# Altium footprint library Connectors.PcbLib: 73 footprints (part 3 of 5)
Each footprint in its own frame and in the unit in brackets; x right, y up, seen from the top. Pads: shape width x height; smd on the part's side, far side on the other; paste and mask are expansions set on the pad; w line width, h text height; cw(c..) or ccw(c..) is an arc to the next point about the centre after c.
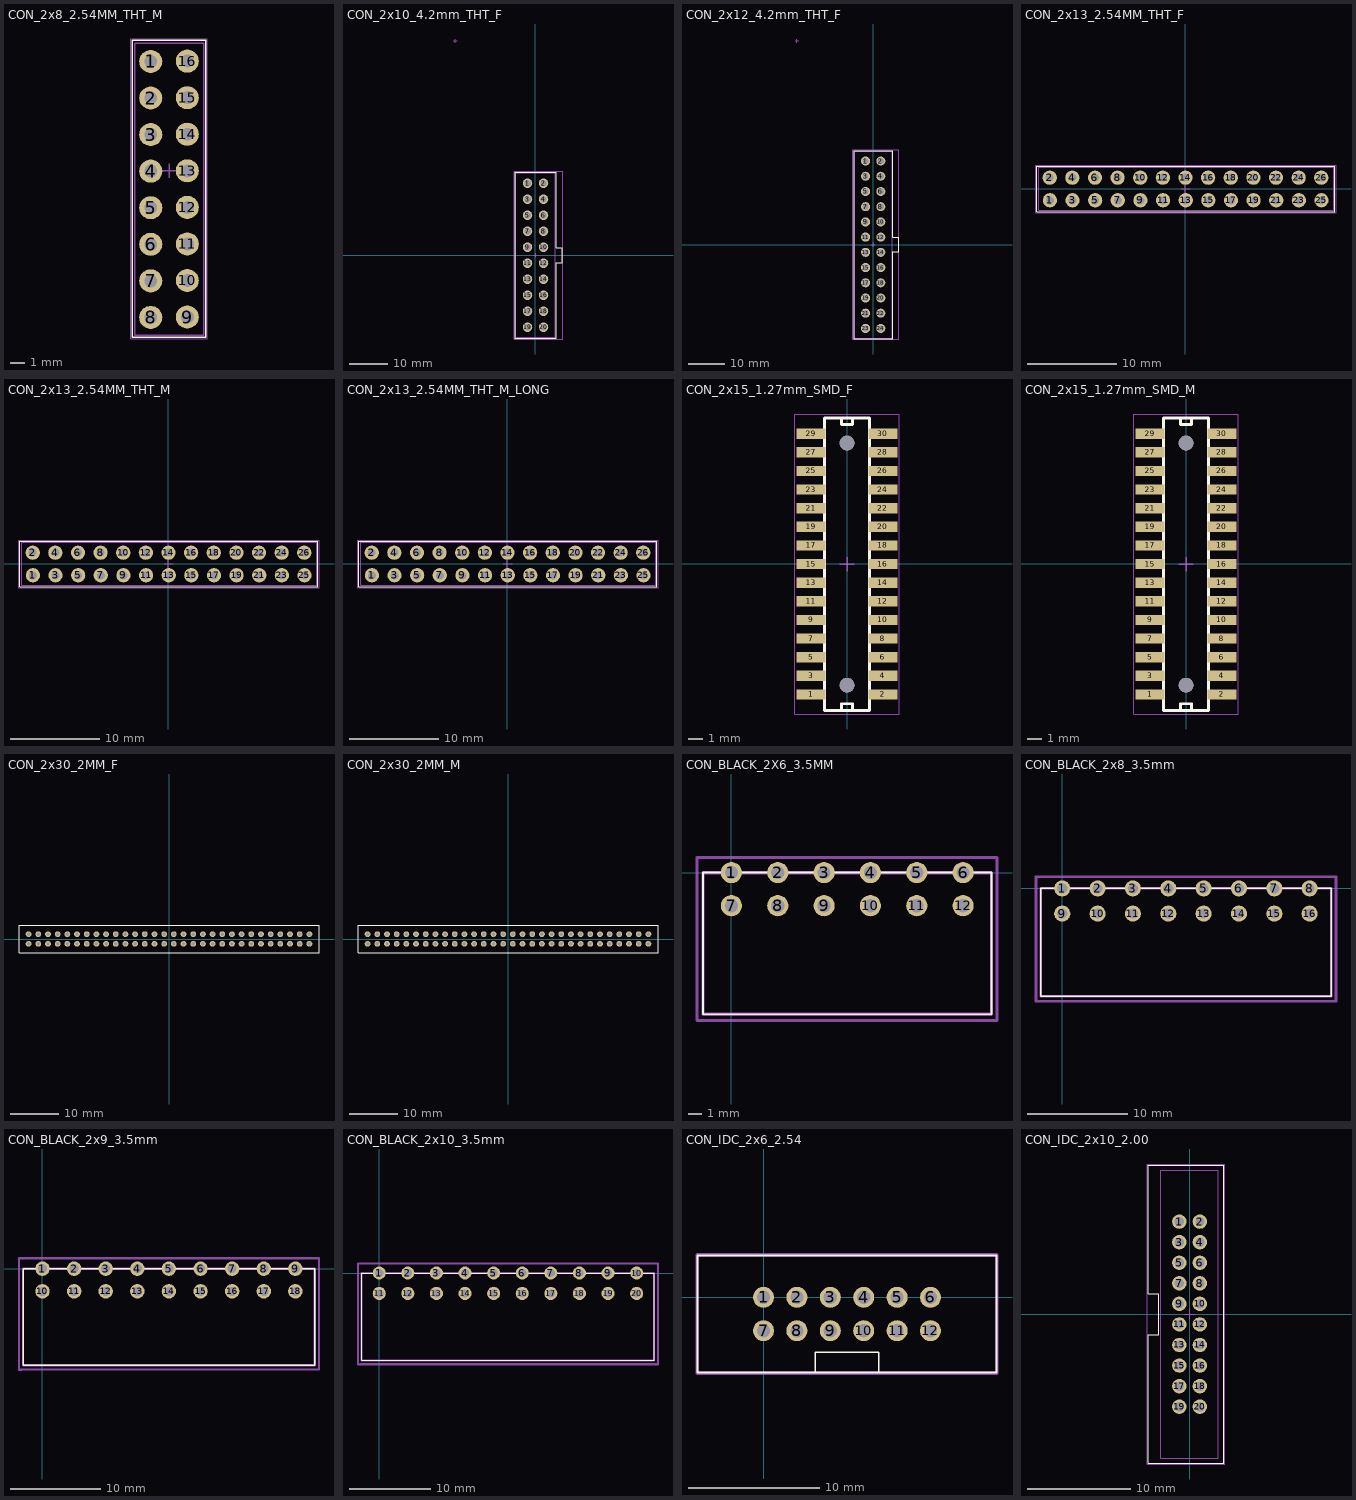
[diagram p2: the footprints below, top view; thin cyan lines are the x and y axes]

## CON_2x8_2.54MM_THT_M [mm]
height 1.4
pads (16):
  round 1.6 hole 0.9: 1(49.276,-60.349) 2(49.276,-62.889) 3(49.276,-65.429) 4(49.276,-67.969) 5(49.276,-70.509) 6(49.276,-73.049) 7(49.276,-75.589) 8(49.276,-78.129) 9(51.816,-78.105) 10(51.816,-75.565) 11(51.816,-73.025) 12(51.816,-70.485) 13(51.816,-67.945) 14(51.816,-65.405) 15(51.816,-62.865) 16(51.816,-60.325)
Top Overlay:
  lines w0.1: 48.006,-79.502 48.006,-58.889 53.086,-58.889 53.086,-79.502 48.006,-79.502
Mechanical 13:
  lines w0.1: 48.176,-79.375 48.176,-59.089 52.959,-59.089 52.959,-79.375 48.176,-79.375
Mechanical 15:
  lines w0.05: 47.876,-79.629 47.876,-58.789 53.213,-58.789 53.213,-79.629 47.876,-79.629
  lines w0.1: 50.054,-67.945 51.054,-67.945 ; 50.546,-68.438 50.546,-67.438
3D body: height 8.3, standoff -3, extent 48.976,-78.405 49.576,-77.805
3D body: height 8.3, standoff -3, extent 51.516,-78.405 52.116,-77.805
3D body: height 2.4, standoff 0.1, extent 48.262,-79.375 52.873,-59.089
3D body: height 8.3, standoff -3, extent 48.976,-60.648 49.576,-60.048
3D body: height 8.3, standoff -3, extent 51.516,-60.625 52.116,-60.025
3D body: height 8.3, standoff -3, extent 51.516,-63.165 52.116,-62.565
3D body: height 8.3, standoff -3, extent 48.976,-63.188 49.576,-62.588
3D body: height 8.3, standoff -3, extent 48.976,-65.728 49.576,-65.128
3D body: height 8.3, standoff -3, extent 51.516,-65.705 52.116,-65.105
3D body: height 8.3, standoff -3, extent 48.976,-68.268 49.576,-67.668
3D body: height 8.3, standoff -3, extent 51.516,-68.245 52.116,-67.645
3D body: height 8.3, standoff -3, extent 48.976,-70.808 49.576,-70.208
3D body: height 8.3, standoff -3, extent 51.516,-70.785 52.116,-70.185
3D body: height 8.3, standoff -3, extent 48.976,-73.348 49.576,-72.748
3D body: height 8.3, standoff -3, extent 51.516,-73.325 52.116,-72.725
3D body: height 8.3, standoff -3, extent 51.516,-75.865 52.116,-75.265
3D body: height 8.3, standoff -3, extent 48.976,-75.888 49.576,-75.288

## CON_2x10_4.2mm_THT_F [mm]
pads (20):
  round 2.5 hole 1.7: 1(-2.095,18.897) 2(2.105,18.897) 3(-2.095,14.697) 4(2.105,14.697) 5(-2.095,10.497) 6(2.105,10.497) 7(-2.095,6.297) 8(2.105,6.297) 9(-2.095,2.097) 10(2.105,2.097) 11(-2.095,-2.103) 12(2.105,-2.103) 13(-2.095,-6.303) 14(2.105,-6.303) 15(-2.095,-10.503) 16(2.105,-10.503) 17(-2.095,-14.703) 18(2.105,-14.703) 19(-2.095,-18.903) 20(2.105,-18.903)
Top Overlay:
  lines w0.1: -5.395,-21.803 -5.395,21.797 5.405,21.797 5.405,1.997 6.205,1.997 7.005,1.997 7.005,-2.003 5.405,-2.003 5.405,-21.803 -5.395,-21.803
Mechanical 13:
  lines w0.1: -5.195,-21.603 -5.195,21.597 5.205,21.597 5.205,-21.603 -5.195,-21.603
Mechanical 15:
  lines w0.05: -5.595,-22.003 -5.595,21.997 7.105,21.997 7.105,-22.003 -5.595,-22.003
  lines w0.1: -21.545,56.273 -20.545,56.273 ; -21.045,55.773 -21.045,56.773 ; -0.495,-0.003 0.505,-0.003 ; 0.005,-0.503 0.005,0.497
3D body: height 12, standoff -3.7, extent -2.695,14.097 -1.495,15.297
3D body: height 12, standoff -3.7, extent -2.695,9.897 -1.495,11.097
3D body: height 12, standoff -3.7, extent -2.695,5.697 -1.495,6.897
3D body: height 12, standoff -3.7, extent -2.695,1.497 -1.495,2.697
3D body: height 12, standoff -3.7, extent -2.695,-2.703 -1.495,-1.503
3D body: height 12, standoff -3.7, extent -2.695,-6.903 -1.495,-5.703
3D body: height 12, standoff -3.7, extent -2.695,-11.103 -1.495,-9.903
3D body: height 12, standoff -3.7, extent -2.695,-15.303 -1.495,-14.103
3D body: height 12, standoff -3.7, extent 1.505,-15.303 2.705,-14.103
3D body: height 12, standoff -3.7, extent 1.505,-11.103 2.705,-9.903
3D body: height 12, standoff -3.7, extent 1.505,-6.903 2.705,-5.703
3D body: height 12, standoff -3.7, extent 1.505,-2.703 2.705,-1.503
3D body: height 12, standoff -3.7, extent 1.505,1.497 2.705,2.697
3D body: height 12, standoff -3.7, extent 1.505,5.697 2.705,6.897
3D body: height 12, standoff -3.7, extent 1.505,9.897 2.705,11.097
3D body: height 12, standoff -3.7, extent 1.505,14.097 2.705,15.297
3D body: height 12, standoff -3.7, extent 1.505,18.297 2.705,19.497
3D body: height 12, standoff -3.7, extent -2.695,18.297 -1.495,19.497
3D body: height 12, standoff -3.7, extent 1.505,-19.503 2.705,-18.303
3D body: height 12, standoff -3.7, extent -2.695,-19.503 -1.495,-18.303
3D body: height 13.1, standoff 0.1, extent -5.195,-21.603 5.205,21.597

## CON_2x12_4.2mm_THT_F [mm]
pads (24):
  round 2.5 hole 1.7: 1(-2.095,23.088) 2(2.105,23.088) 3(-2.095,18.888) 4(2.105,18.888) 5(-2.095,14.688) 6(2.105,14.688) 7(-2.095,10.488) 8(2.105,10.488) 9(-2.095,6.288) 10(2.105,6.288) 11(-2.095,2.088) 12(2.105,2.088) 13(-2.095,-2.112) 14(2.105,-2.112) 15(-2.095,-6.312) 16(2.105,-6.312) 17(-2.095,-10.512) 18(2.105,-10.512) 19(-2.095,-14.712) 20(2.105,-14.712) 21(-2.095,-18.912) 22(2.105,-18.912) 23(-2.095,-23.112) 24(2.105,-23.112)
Top Overlay:
  lines w0.1: -5.395,-25.908 -5.395,25.988 5.405,25.988 5.405,2.188 5.405,1.988 6.205,1.988 7.005,1.988 7.005,-2.012 5.405,-2.012 5.405,-25.908 -5.395,-25.908
Mechanical 13:
  lines w0.1: -5.195,-25.781 -5.195,25.788 5.205,25.788 5.205,-25.781 -5.195,-25.781
Mechanical 15:
  lines w0.05: -5.595,-26.035 -5.595,26.188 7.105,26.188 7.105,-26.035 -5.595,-26.035
  lines w0.1: -21.545,56.273 -20.545,56.273 ; -21.045,55.773 -21.045,56.773 ; -0.495,-0.003 0.505,-0.003 ; 0.005,-0.503 0.005,0.497
3D body: height 12, standoff -3.7, extent -2.695,18.288 -1.495,19.488
3D body: height 12, standoff -3.7, extent -2.695,14.088 -1.495,15.288
3D body: height 12, standoff -3.7, extent -2.695,9.888 -1.495,11.088
3D body: height 12, standoff -3.7, extent -2.695,5.688 -1.495,6.888
3D body: height 12, standoff -3.7, extent -2.695,1.488 -1.495,2.688
3D body: height 12, standoff -3.7, extent -2.695,-2.712 -1.495,-1.512
3D body: height 12, standoff -3.7, extent -2.695,-6.912 -1.495,-5.712
3D body: height 12, standoff -3.7, extent -2.695,-11.112 -1.495,-9.912
3D body: height 12, standoff -3.7, extent 1.505,-11.112 2.705,-9.912
3D body: height 12, standoff -3.7, extent 1.505,-6.912 2.705,-5.712
3D body: height 12, standoff -3.7, extent 1.505,-2.712 2.705,-1.512
3D body: height 12, standoff -3.7, extent 1.505,1.488 2.705,2.688
3D body: height 12, standoff -3.7, extent 1.505,5.688 2.705,6.888
3D body: height 12, standoff -3.7, extent 1.505,9.888 2.705,11.088
3D body: height 12, standoff -3.7, extent 1.505,14.088 2.705,15.288
3D body: height 12, standoff -3.7, extent 1.505,18.288 2.705,19.488
3D body: height 12, standoff -3.7, extent 1.505,22.488 2.705,23.688
3D body: height 12, standoff -3.7, extent -2.695,22.488 -1.495,23.688
3D body: height 12, standoff -3.7, extent 1.505,-15.312 2.705,-14.112
3D body: height 12, standoff -3.7, extent -2.695,-15.312 -1.495,-14.112
3D body: height 13.1, standoff 0.1, extent -5.2,-25.781 5.2,25.781
3D body: height 12, standoff -3.7, extent -2.695,-19.512 -1.495,-18.312
3D body: height 12, standoff -3.7, extent 1.505,-19.512 2.705,-18.312
3D body: height 12, standoff -3.7, extent 1.505,-23.712 2.705,-22.512
3D body: height 12, standoff -3.7, extent -2.695,-23.712 -1.495,-22.512

## CON_2x13_2.54MM_THT_F [mm]
height 1.4
pads (26):
  round 1.6 hole 0.9: 1(-15.216,-1.27) 2(-15.24,1.27) 3(-12.676,-1.27) 4(-12.7,1.27) 5(-10.136,-1.27) 6(-10.16,1.27) 7(-7.596,-1.27) 8(-7.62,1.27) 9(-5.056,-1.27) 10(-5.08,1.27) 11(-2.516,-1.27) 12(-2.54,1.27) 13(0.024,-1.27) 14(0,1.27) 15(2.564,-1.27) 16(2.54,1.27) 17(5.104,-1.27) 18(5.08,1.27) 19(7.644,-1.27) 20(7.62,1.27) 21(10.184,-1.27) 22(10.16,1.27) 23(12.724,-1.27) 24(12.7,1.27) 25(15.264,-1.27) 26(15.24,1.27)
Top Overlay:
  lines w0.1: -16.676,-2.54 16.764,-2.54 16.764,2.54 -16.676,2.54 -16.676,-2.54
Mechanical 13:
  lines w0.1: -16.476,-2.37 16.637,-2.37 16.637,2.413 -16.476,2.413 -16.476,-2.37
Mechanical 15:
  lines w0.05: -16.776,-2.67 -16.776,2.667 16.891,2.667 16.891,-2.67 -16.776,-2.67
  lines w0.1: -0.492,0 0.508,0 ; 0,-0.508 0,0.492
3D body "step_temp.STEP": height 8.45, standoff -3.15, extent -16.637,-2.54 16.883,2.54

## CON_2x13_2.54MM_THT_M [mm]
height 1.4
pads (26):
  round 1.6 hole 0.9: 1(-15.216,-1.27) 2(-15.24,1.27) 3(-12.676,-1.27) 4(-12.7,1.27) 5(-10.136,-1.27) 6(-10.16,1.27) 7(-7.596,-1.27) 8(-7.62,1.27) 9(-5.056,-1.27) 10(-5.08,1.27) 11(-2.516,-1.27) 12(-2.54,1.27) 13(0.024,-1.27) 14(0,1.27) 15(2.564,-1.27) 16(2.54,1.27) 17(5.104,-1.27) 18(5.08,1.27) 19(7.644,-1.27) 20(7.62,1.27) 21(10.184,-1.27) 22(10.16,1.27) 23(12.724,-1.27) 24(12.7,1.27) 25(15.264,-1.27) 26(15.24,1.27)
Top Overlay:
  lines w0.1: -16.676,-2.54 -16.676,2.54 16.764,2.54 16.764,-2.54 -16.676,-2.54
Mechanical 13:
  lines w0.1: -16.476,-2.37 -16.476,2.413 16.637,2.413 16.637,-2.37 -16.476,-2.37
Mechanical 15:
  lines w0.05: -16.776,-2.67 16.891,-2.67 16.891,2.667 -16.776,2.667 -16.776,-2.67
  lines w0.1: -0.492,0 0.508,0 ; 0,-0.508 0,0.492
3D body: height 8.3, standoff -3, extent 14.964,-1.57 15.563,-0.97
3D body: height 8.3, standoff -3, extent 14.94,0.97 15.54,1.57
3D body: height 8.3, standoff -3, extent 12.424,-1.57 13.023,-0.97
3D body: height 8.3, standoff -3, extent 12.4,0.97 13,1.57
3D body: height 8.3, standoff -3, extent 9.86,0.97 10.46,1.57
3D body: height 8.3, standoff -3, extent 9.884,-1.57 10.483,-0.97
3D body: height 8.3, standoff -3, extent 7.344,-1.57 7.943,-0.97
3D body: height 8.3, standoff -3, extent 7.32,0.97 7.92,1.57
3D body: height 8.3, standoff -3, extent 4.78,0.97 5.38,1.57
3D body: height 8.3, standoff -3, extent 4.804,-1.57 5.403,-0.97
3D body: height 8.3, standoff -3, extent 2.264,-1.57 2.863,-0.97
3D body: height 8.3, standoff -3, extent 2.24,0.97 2.84,1.57
3D body: height 8.3, standoff -3, extent -0.3,0.97 0.3,1.57
3D body: height 8.3, standoff -3, extent -0.276,-1.57 0.323,-0.97
3D body: height 8.3, standoff -3, extent -2.816,-1.57 -2.217,-0.97
3D body: height 8.3, standoff -3, extent -2.84,0.97 -2.24,1.57
3D body: height 8.3, standoff -3, extent -5.38,0.97 -4.78,1.57
3D body: height 8.3, standoff -3, extent -5.356,-1.57 -4.757,-0.97
3D body: height 8.3, standoff -3, extent -7.896,-1.57 -7.297,-0.97
3D body: height 8.3, standoff -3, extent -7.92,0.97 -7.32,1.57
3D body: height 8.3, standoff -3, extent -10.46,0.97 -9.86,1.57
3D body: height 8.3, standoff -3, extent -10.436,-1.57 -9.837,-0.97
3D body: height 8.3, standoff -3, extent -12.976,-1.57 -12.377,-0.97
3D body: height 8.3, standoff -3, extent -13,0.97 -12.4,1.57
3D body: height 8.3, standoff -3, extent -15.516,-1.57 -14.917,-0.97
3D body: height 8.3, standoff -3, extent -15.54,0.97 -14.94,1.57
3D body: height 2.4, standoff 0.1, extent -16.383,-2.286 16.51,2.286

## CON_2x13_2.54MM_THT_M_LONG [mm]
height 1.4
pads (26):
  round 1.6 hole 0.9: 1(-15.216,-1.27) 2(-15.24,1.27) 3(-12.676,-1.27) 4(-12.7,1.27) 5(-10.136,-1.27) 6(-10.16,1.27) 7(-7.596,-1.27) 8(-7.62,1.27) 9(-5.056,-1.27) 10(-5.08,1.27) 11(-2.516,-1.27) 12(-2.54,1.27) 13(0.024,-1.27) 14(0,1.27) 15(2.564,-1.27) 16(2.54,1.27) 17(5.104,-1.27) 18(5.08,1.27) 19(7.644,-1.27) 20(7.62,1.27) 21(10.184,-1.27) 22(10.16,1.27) 23(12.724,-1.27) 24(12.7,1.27) 25(15.264,-1.27) 26(15.24,1.27)
Top Overlay:
  lines w0.1: -16.676,-2.54 16.764,-2.54 16.764,2.54 -16.676,2.54 -16.676,-2.54
Mechanical 13:
  lines w0.1: -16.476,-2.37 16.637,-2.37 16.637,2.413 -16.476,2.413 -16.476,-2.37
Mechanical 15:
  lines w0.05: -16.776,-2.67 -16.776,2.667 16.891,2.667 16.891,-2.67 -16.776,-2.67
  lines w0.1: -0.492,0 0.508,0 ; 0,-0.508 0,0.492
3D body: height 25, standoff -3, extent -15.54,0.97 -14.94,1.57
3D body: height 25, standoff -3, extent -15.516,-1.57 -14.917,-0.97
3D body: height 25, standoff -3, extent -13,0.97 -12.4,1.57
3D body: height 25, standoff -3, extent -12.976,-1.57 -12.377,-0.97
3D body: height 25, standoff -3, extent -10.436,-1.57 -9.837,-0.97
3D body: height 25, standoff -3, extent -10.46,0.97 -9.86,1.57
3D body: height 25, standoff -3, extent -7.92,0.97 -7.32,1.57
3D body: height 25, standoff -3, extent -7.896,-1.57 -7.297,-0.97
3D body: height 25, standoff -3, extent -5.356,-1.57 -4.757,-0.97
3D body: height 25, standoff -3, extent -5.38,0.97 -4.78,1.57
3D body: height 25, standoff -3, extent -2.84,0.97 -2.24,1.57
3D body: height 25, standoff -3, extent -2.816,-1.57 -2.217,-0.97
3D body: height 25, standoff -3, extent -0.276,-1.57 0.323,-0.97
3D body: height 25, standoff -3, extent -0.3,0.97 0.3,1.57
3D body: height 25, standoff -3, extent 2.24,0.97 2.84,1.57
3D body: height 25, standoff -3, extent 2.264,-1.57 2.863,-0.97
3D body: height 25, standoff -3, extent 4.804,-1.57 5.403,-0.97
3D body: height 25, standoff -3, extent 4.78,0.97 5.38,1.57
3D body: height 25, standoff -3, extent 7.32,0.97 7.92,1.57
3D body: height 25, standoff -3, extent 7.344,-1.57 7.943,-0.97
3D body: height 25, standoff -3, extent 9.884,-1.57 10.483,-0.97
3D body: height 25, standoff -3, extent 9.86,0.97 10.46,1.57
3D body: height 25, standoff -3, extent 12.4,0.97 13,1.57
3D body: height 25, standoff -3, extent 12.424,-1.57 13.023,-0.97
3D body: height 25, standoff -3, extent 14.94,0.97 15.54,1.57
3D body: height 25, standoff -3, extent 14.964,-1.57 15.563,-0.97
3D body: height 2.4, standoff 0.1, extent -16.373,-2.282 16.52,2.29

## CON_2x15_1.27mm_SMD_F [mm]
pads (32):
  rect 2x0.7 smd: 1(-2.452,-8.897) 2(2.448,-8.897) 3(-2.452,-7.627) 4(2.448,-7.627) 5(-2.452,-6.357) 6(2.448,-6.357) 7(-2.452,-5.087) 8(2.448,-5.087) 9(-2.452,-3.817) 10(2.448,-3.817) 11(-2.452,-2.547) 12(2.448,-2.547) 13(-2.452,-1.277) 14(2.448,-1.277) 15(-2.452,-0.007) 16(2.448,-0.007) 17(-2.452,1.263) 18(2.448,1.263) 19(-2.452,2.533) 20(2.448,2.533) 21(-2.452,3.803) 22(2.448,3.803) 23(-2.452,5.073) 24(2.448,5.073) 25(-2.452,6.343) 26(2.448,6.343) 27(-2.452,7.613) 28(2.448,7.613) 29(-2.452,8.883) 30(2.448,8.883)
  round 1 hole 1 unplated: ""(0,-8.262) ""(0,8.248)
Top Overlay:
  lines w0.2: -0.383,-9.982 -0.383,-9.532 0.379,-9.532 0.379,-9.982 ; -0.383,9.968 -0.383,9.518 0.379,9.518 0.379,9.968 ; -1.524,-9.982 -1.524,9.968 1.524,9.968 1.524,-9.982 -1.524,-9.982
Mechanical 13:
  lines w0.1: -1.552,-9.982 1.548,-9.982 1.548,9.968 -1.552,9.968 -1.552,-9.982
Mechanical 15:
  lines w0.05: -3.577,-10.232 3.573,-10.232 3.573,10.229 -3.577,10.229 -3.577,-10.232
  lines w0.1: -0.484,-0.007 0.481,-0.007 ; -0.002,-0.49 -0.002,0.475
3D body "2x15_1.27mm_Female.stp": height 4.6, standoff 0, extent -1.5,-9.75 1.5,9.75

## CON_2x15_1.27mm_SMD_M [mm]
pads (32):
  rect 2x0.7 smd: 1(-2.452,-8.897) 2(2.448,-8.897) 3(-2.452,-7.627) 4(2.448,-7.627) 5(-2.452,-6.357) 6(2.448,-6.357) 7(-2.452,-5.087) 8(2.448,-5.087) 9(-2.452,-3.817) 10(2.448,-3.817) 11(-2.452,-2.547) 12(2.448,-2.547) 13(-2.452,-1.277) 14(2.448,-1.277) 15(-2.452,-0.007) 16(2.448,-0.007) 17(-2.452,1.263) 18(2.448,1.263) 19(-2.452,2.533) 20(2.448,2.533) 21(-2.452,3.803) 22(2.448,3.803) 23(-2.452,5.073) 24(2.448,5.073) 25(-2.452,6.343) 26(2.448,6.343) 27(-2.452,7.613) 28(2.448,7.613) 29(-2.452,8.883) 30(2.448,8.883)
  round 1 hole 1 unplated: ""(0,-8.262) ""(0,8.248)
Top Overlay:
  lines w0.2: -0.383,-9.982 -0.383,-9.532 0.379,-9.532 0.379,-9.982 ; -0.383,9.968 -0.383,9.518 0.379,9.518 0.379,9.968 ; -1.524,-9.982 -1.524,9.968 1.524,9.968 1.524,-9.982 -1.524,-9.982
Mechanical 13:
  lines w0.1: -1.552,-9.982 1.548,-9.982 1.548,9.968 -1.552,9.968 -1.552,-9.982
Mechanical 15:
  lines w0.05: -3.577,-10.232 3.573,-10.232 3.573,10.229 -3.577,10.229 -3.577,-10.232
  lines w0.1: -0.484,-0.007 0.481,-0.007 ; -0.002,-0.49 -0.002,0.475
3D body "2X15_1.27mm_Male.stp": height 5, standoff -0.2, extent -1.7,-9.675 1.7,9.675

## CON_2x30_2MM_F [mm]
pads (60):
  round 1.2 hole 0.7: 1(-29,-1) 2(-29,1) 3(-27,-1) 4(-27,1) 5(-25,-1) 6(-25,1) 7(-23,-1) 8(-23,1) 9(-21,-1) 10(-21,1) 11(-19,-1) 12(-19,1) 13(-17,-1) 14(-17,1) 15(-15,-1) 16(-15,1) 17(-13,-1) 18(-13,1) 19(-11,-1) 20(-11,1) 21(-9,-1) 22(-9,1) 23(-7,-1) 24(-7,1) 25(-5,-1) 26(-5,1) 27(-3,-1) 28(-3,1) 29(-1,-1) 30(-1,1) 31(1,-1) 32(1,1) 33(3,-1) 34(3,1) 35(5,-1) 36(5,1) 37(7,-1) 38(7,1) 39(9,-1) 40(9,1) 41(11,-1) 42(11,1) 43(13,-1) 44(13,1) 45(15,-1) 46(15,1) 47(17,-1) 48(17,1) 49(19,-1) 50(19,1) 51(21,-1) 52(21,1) 53(23,-1) 54(23,1) 55(25,-1) 56(25,1) 57(27,-1) 58(27,1) 59(29,-1) 60(29,1)
Top Overlay:
  lines w0.127: -30.988,-2.794 -30.988,2.794 30.988,2.794 30.988,-2.794 -30.988,-2.794
Mechanical 15:
  lines w0.1: -17.5,1 -16.5,1 ; 8.5,1 9.5,1 ; 22.5,1 23.5,1
3D body "2x30.stp": height 4.6, standoff 0, extent -30,-2 30,2

## CON_2x30_2MM_M [mm]
pads (60):
  round 1.2 hole 0.7: 1(-29,-1) 2(-29,1) 3(-27,-1) 4(-27,1) 5(-25,-1) 6(-25,1) 7(-23,-1) 8(-23,1) 9(-21,-1) 10(-21,1) 11(-19,-1) 12(-19,1) 13(-17,-1) 14(-17,1) 15(-15,-1) 16(-15,1) 17(-13,-1) 18(-13,1) 19(-11,-1) 20(-11,1) 21(-9,-1) 22(-9,1) 23(-7,-1) 24(-7,1) 25(-5,-1) 26(-5,1) 27(-3,-1) 28(-3,1) 29(-1,-1) 30(-1,1) 31(1,-1) 32(1,1) 33(3,-1) 34(3,1) 35(5,-1) 36(5,1) 37(7,-1) 38(7,1) 39(9,-1) 40(9,1) 41(11,-1) 42(11,1) 43(13,-1) 44(13,1) 45(15,-1) 46(15,1) 47(17,-1) 48(17,1) 49(19,-1) 50(19,1) 51(21,-1) 52(21,1) 53(23,-1) 54(23,1) 55(25,-1) 56(25,1) 57(27,-1) 58(27,1) 59(29,-1) 60(29,1)
Top Overlay:
  lines w0.127: -30.988,-2.794 -30.988,2.794 30.988,2.794 30.988,-2.794 -30.988,-2.794
Mechanical 15:
  lines w0.1: -17.5,1 -16.5,1 ; 8.5,1 9.5,1 ; 22.5,1 23.5,1
3D body: height 5.5, standoff -2.8, extent -29.2,0.8 -28.8,1.2
3D body: height 5.5, standoff -2.8, extent -17.2,0.8 -16.8,1.2
3D body: height 5.5, standoff -2.8, extent -19.2,0.8 -18.8,1.2
3D body: height 5.5, standoff -2.8, extent -23.2,0.8 -22.8,1.2
3D body: height 5.5, standoff -2.8, extent -15.2,0.8 -14.8,1.2
3D body: height 5.5, standoff -2.8, extent -9.2,0.8 -8.8,1.2
3D body: height 5.5, standoff -2.8, extent -5.2,0.8 -4.8,1.2
3D body: height 5.5, standoff -2.8, extent -7.2,0.8 -6.8,1.2
3D body: height 5.5, standoff -2.8, extent -3.2,0.8 -2.8,1.2
3D body: height 5.5, standoff -2.8, extent -27.2,0.8 -26.8,1.2
3D body: height 5.5, standoff -2.8, extent -21.2,0.8 -20.8,1.2
3D body: height 5.5, standoff -2.8, extent -25.2,0.8 -24.8,1.2
3D body: height 5.5, standoff -2.8, extent 16.8,0.8 17.2,1.2
3D body: height 5.5, standoff -2.8, extent 18.8,0.8 19.2,1.2
3D body: height 5.5, standoff -2.8, extent 14.8,0.8 15.2,1.2
3D body: height 5.5, standoff -2.8, extent 12.8,0.8 13.2,1.2
3D body: height 5.5, standoff -2.8, extent 10.8,0.8 11.2,1.2
3D body: height 5.5, standoff -2.8, extent 2.8,0.8 3.2,1.2
3D body: height 5.5, standoff -2.8, extent -1.2,0.8 -0.8,1.2
3D body: height 5.5, standoff -2.8, extent 0.8,0.8 1.2,1.2
3D body: height 5.5, standoff -2.8, extent -13.2,0.8 -12.8,1.2
3D body: height 5.5, standoff -2.8, extent -11.2,0.8 -10.8,1.2
3D body: height 5.5, standoff -2.8, extent 4.8,0.8 5.2,1.2
3D body: height 5.5, standoff -2.8, extent 6.8,0.8 7.2,1.2
3D body: height 5.5, standoff -2.8, extent 8.8,0.8 9.2,1.2
3D body: height 5.5, standoff -2.8, extent -29.2,-1.2 -28.8,-0.8
3D body: height 5.5, standoff -2.8, extent -11.2,-1.2 -10.8,-0.8
3D body: height 5.5, standoff -2.8, extent -9.2,-1.2 -8.8,-0.8
3D body: height 5.5, standoff -2.8, extent -15.2,-1.2 -14.8,-0.8
3D body: height 5.5, standoff -2.8, extent -13.2,-1.2 -12.8,-0.8
3D body: height 5.5, standoff -2.8, extent -7.2,-1.2 -6.8,-0.8
3D body: height 5.5, standoff -2.8, extent 0.8,-1.2 1.2,-0.8
3D body: height 5.5, standoff -2.8, extent -5.2,-1.2 -4.8,-0.8
3D body: height 5.5, standoff -2.8, extent -1.2,-1.2 -0.8,-0.8
3D body: height 5.5, standoff -2.8, extent -3.2,-1.2 -2.8,-0.8
3D body: height 5.5, standoff -2.8, extent 16.8,-1.2 17.2,-0.8
3D body: height 5.5, standoff -2.8, extent 10.8,-1.2 11.2,-0.8
3D body: height 5.5, standoff -2.8, extent 12.8,-1.2 13.2,-0.8
3D body: height 5.5, standoff -2.8, extent 14.8,-1.2 15.2,-0.8
3D body: height 5.5, standoff -2.8, extent 18.8,-1.2 19.2,-0.8
3D body: height 5.5, standoff -2.8, extent -25.2,-1.2 -24.8,-0.8
3D body: height 5.5, standoff -2.8, extent -17.2,-1.2 -16.8,-0.8
3D body: height 5.5, standoff -2.8, extent -27.2,-1.2 -26.8,-0.8
3D body: height 5.5, standoff -2.8, extent -19.2,-1.2 -18.8,-0.8
3D body: height 5.5, standoff -2.8, extent -21.2,-1.2 -20.8,-0.8
3D body: height 5.5, standoff -2.8, extent -23.2,-1.2 -22.8,-0.8
3D body: height 5.5, standoff -2.8, extent 8.8,-1.2 9.2,-0.8
3D body: height 5.5, standoff -2.8, extent 2.8,-1.2 3.2,-0.8
3D body: height 5.5, standoff -2.8, extent 4.8,-1.2 5.2,-0.8
3D body: height 5.5, standoff -2.8, extent 6.8,-1.2 7.2,-0.8
3D body: height 5.5, standoff -2.8, extent 28.8,0.8 29.2,1.2
3D body: height 5.5, standoff -2.8, extent 26.8,0.8 27.2,1.2
3D body: height 5.5, standoff -2.8, extent 24.8,0.8 25.2,1.2
3D body: height 5.5, standoff -2.8, extent 22.8,0.8 23.2,1.2
3D body: height 5.5, standoff -2.8, extent 24.8,-1.2 25.2,-0.8
3D body: height 5.5, standoff -2.8, extent 26.8,-1.2 27.2,-0.8
3D body: height 5.5, standoff -2.8, extent 28.8,-1.2 29.2,-0.8
3D body: height 5.5, standoff -2.8, extent 22.8,-1.2 23.2,-0.8
3D body: height 5.5, standoff -2.8, extent 20.8,0.8 21.2,1.2
3D body: height 5.5, standoff -2.8, extent 20.8,-1.2 21.2,-0.8
3D body: height 1.4, standoff 0.1, extent -31,-2.8 31,2.8

## CON_BLACK_2X6_3.5MM [mm]
pads (12):
  round 1.6 hole 1: 1(0,0) 2(3.5,0) 3(7,0) 4(10.5,0) 5(14,0) 6(17.5,0) 7(0,-2.5) 8(3.5,-2.5) 9(7,-2.5) 10(10.5,-2.5) 11(14,-2.5) 12(17.5,-2.5)
Top Overlay:
  lines w0.15: -2.15,-10.7 19.65,-10.7 19.65,0 -2.15,0 -2.15,-10.7
Top Assembly:
  lines w0.254: -2.15,-10.7 19.65,-10.7 19.65,0 -2.15,0 -2.15,-10.7
Top Courtyard:
  lines w0.254: -2.6,-11.172 -2.6,-10.668 -2.6,0 -2.6,1.139 -2.599,1.14 -2.349,1.14 20.061,1.14 20.061,0 20.061,-10.668 20.061,-11.168 -2.349,-11.168 -2.354,-11.172 -2.6,-11.172
3D body: height 6, standoff -3.7, extent 16.888,-3.09 18.088,-1.89
3D body: height 6, standoff -3.7, extent 16.888,-0.59 18.088,0.61
3D body: height 6, standoff -3.7, extent 13.388,-0.59 14.588,0.61
3D body: height 6, standoff -3.7, extent 13.388,-3.09 14.588,-1.89
3D body: height 6, standoff -3.7, extent 9.888,-3.09 11.088,-1.89
3D body: height 6, standoff -3.7, extent 9.888,-0.59 11.088,0.61
3D body: height 6, standoff -3.7, extent 6.388,-3.09 7.588,-1.89
3D body: height 6, standoff -3.7, extent 6.388,-0.59 7.588,0.61
3D body: height 6, standoff -3.7, extent 2.888,-0.59 4.088,0.61
3D body: height 6, standoff -3.7, extent 2.888,-3.09 4.088,-1.89
3D body: height 6, standoff -3.7, extent -0.612,-3.09 0.588,-1.89
3D body: height 6, standoff -3.7, extent -0.6,-0.6 0.6,0.6
3D body: height 10.8, standoff 0, extent -2.032,-10.7 19.685,0

## CON_BLACK_2x8_3.5mm [mm] "15EDGKNH KF2EDGKS 3.5 Double-layer spring-loaded PCB terminal block 2EDGSR black terminal"
pads (16):
  round 1.6 hole 1: 1(0,0) 2(3.5,0) 3(7,0) 4(10.5,0) 5(14,0) 6(17.5,0) 7(21,0) 8(24.5,0) 9(0,-2.5) 10(3.5,-2.5) 11(7,-2.5) 12(10.5,-2.5) 13(14,-2.5) 14(17.5,-2.5) 15(21,-2.5) 16(24.5,-2.5)
Top Overlay:
  lines w0.15: -2.15,-10.7 26.65,-10.7 26.65,0 -2.15,0 -2.15,-10.7
Top Assembly:
  lines w0.254: -2.15,-10.7 26.65,-10.7 26.65,0 -2.15,0 -2.15,-10.7
Top Courtyard:
  lines w0.254: -2.6,-11.172 -2.354,-11.172 -2.349,-11.168 26.86,-11.168 26.864,-11.171 27.11,-11.171 27.11,-10.668 27.11,0 27.11,1.14 26.86,1.14 -2.349,1.14 -2.599,1.14 -2.6,1.139 -2.6,0 -2.6,-10.668 -2.6,-11.172
3D body: height 10.8, standoff 0, extent -2.159,-10.7 26.67,-0.054
3D body: height 6, standoff -3.7, extent -0.612,-0.59 0.588,0.61
3D body: height 6, standoff -3.7, extent -0.612,-3.09 0.588,-1.89
3D body: height 6, standoff -3.7, extent 2.888,-3.09 4.088,-1.89
3D body: height 6, standoff -3.7, extent 2.888,-0.59 4.088,0.61
3D body: height 6, standoff -3.7, extent 6.388,-0.59 7.588,0.61
3D body: height 6, standoff -3.7, extent 6.388,-3.09 7.588,-1.89
3D body: height 6, standoff -3.7, extent 9.888,-3.09 11.088,-1.89
3D body: height 6, standoff -3.7, extent 9.888,-0.59 11.088,0.61
3D body: height 6, standoff -3.7, extent 13.388,-0.59 14.588,0.61
3D body: height 6, standoff -3.7, extent 13.388,-3.09 14.588,-1.89
3D body: height 6, standoff -3.7, extent 16.888,-3.09 18.088,-1.89
3D body: height 6, standoff -3.7, extent 16.888,-0.59 18.088,0.61
3D body: height 6, standoff -3.7, extent 20.388,-0.59 21.588,0.61
3D body: height 6, standoff -3.7, extent 20.388,-3.09 21.588,-1.89
3D body: height 6, standoff -3.7, extent 23.888,-3.09 25.088,-1.89
3D body: height 6, standoff -3.7, extent 23.888,-0.59 25.088,0.61

## CON_BLACK_2x9_3.5mm [mm] "15EDGKNH KF2EDGKS 3.5 Double-layer spring-loaded PCB terminal block 2EDGSR black terminal"
pads (18):
  round 1.6 hole 1: 1(0,0) 2(3.5,0) 3(7,0) 4(10.5,0) 5(14,0) 6(17.5,0) 7(21,0) 8(24.5,0) 9(28,0) 10(0,-2.5) 11(3.5,-2.5) 12(7,-2.5) 13(10.5,-2.5) 14(14,-2.5) 15(17.5,-2.5) 16(21,-2.5) 17(24.5,-2.5) 18(28,-2.5)
Top Overlay:
  lines w0.15: -2.15,-10.7 -2.15,0 26.65,0 30.15,0 30.15,-10.7 26.65,-10.7 -2.15,-10.7
Top Assembly:
  lines w0.254: -2.15,-10.7 -2.15,0 26.65,0 30.15,0 30.15,-10.7 26.65,-10.7 -2.15,-10.7
Top Courtyard:
  lines w0.254: 26.864,-11.171 26.86,-11.168 ; 26.86,-11.168 -2.349,-11.168 -2.354,-11.172 -2.6,-11.172 -2.6,-10.668 -2.6,0 -2.6,1.139 -2.599,1.14 -2.349,1.14 26.86,1.14 30.607,1.14 30.615,1.14 30.615,0 30.615,-10.668 30.615,-11.168 30.543,-11.168 26.86,-11.168
3D body: height 6, standoff -3.7, extent 27.388,-3.09 28.588,-1.89
3D body: height 6, standoff -3.7, extent 27.388,-0.59 28.588,0.61
3D body: height 6, standoff -3.7, extent 23.888,-3.09 25.088,-1.89
3D body: height 6, standoff -3.7, extent 23.888,-0.59 25.088,0.61
3D body: height 6, standoff -3.7, extent 20.388,-3.09 21.588,-1.89
3D body: height 6, standoff -3.7, extent 20.388,-0.59 21.588,0.61
3D body: height 6, standoff -3.7, extent 16.888,-0.59 18.088,0.61
3D body: height 6, standoff -3.7, extent 16.888,-3.09 18.088,-1.89
3D body: height 6, standoff -3.7, extent 13.388,-3.09 14.588,-1.89
3D body: height 6, standoff -3.7, extent 13.388,-0.59 14.588,0.61
3D body: height 6, standoff -3.7, extent 9.888,-3.09 11.088,-1.89
3D body: height 6, standoff -3.7, extent 9.888,-0.59 11.088,0.61
3D body: height 6, standoff -3.7, extent 6.388,-0.59 7.588,0.61
3D body: height 6, standoff -3.7, extent 6.388,-3.09 7.588,-1.89
3D body: height 6, standoff -3.7, extent 2.888,-3.09 4.088,-1.89
3D body: height 6, standoff -3.7, extent 2.888,-0.59 4.088,0.61
3D body: height 6, standoff -3.7, extent -0.612,-0.59 0.588,0.61
3D body: height 6, standoff -3.7, extent -0.612,-3.09 0.588,-1.89
3D body: height 10.8, standoff 0, extent -2.159,-10.7 30.15,-0.054

## CON_BLACK_2x10_3.5mm [mm] "15EDGKNH KF2EDGKS 3.5 Double-layer spring-loaded PCB terminal block 2EDGSR black terminal"
pads (20):
  round 1.6 hole 1: 1(0,0) 2(3.5,0) 3(7,0) 4(10.5,0) 5(14,0) 6(17.5,0) 7(21,0) 8(24.5,0) 9(28,0) 10(31.5,0) 11(0,-2.5) 12(3.5,-2.5) 13(7,-2.5) 14(10.5,-2.5) 15(14,-2.5) 16(17.5,-2.5) 17(21,-2.5) 18(24.5,-2.5) 19(28,-2.5) 20(31.5,-2.5)
Top Overlay:
  lines w0.15: -2.15,-10.7 -2.15,0 26.65,0 33.65,0 33.65,-10.7 26.65,-10.7 -2.15,-10.7
Top Assembly:
  lines w0.254: -2.15,-10.7 -2.15,0 26.65,0 33.65,0 33.65,-10.7 26.65,-10.7 -2.15,-10.7
Top Courtyard:
  lines w0.254: 26.864,-11.171 26.86,-11.168 ; 26.86,-11.168 -2.349,-11.168 -2.354,-11.172 -2.6,-11.172 -2.6,-10.668 -2.6,0 -2.6,1.139 -2.599,1.14 -2.349,1.14 26.86,1.14 34.115,1.14 34.115,0 34.115,-10.668 34.115,-11.168 26.86,-11.168
3D body: height 10.8, standoff 0, extent -2.159,-10.7 33.655,-0.054
3D body: height 6, standoff -3.7, extent -0.612,-0.59 0.588,0.61
3D body: height 6, standoff -3.7, extent -0.612,-3.09 0.588,-1.89
3D body: height 6, standoff -3.7, extent 2.888,-0.59 4.088,0.61
3D body: height 6, standoff -3.7, extent 2.888,-3.09 4.088,-1.89
3D body: height 6, standoff -3.7, extent 6.388,-0.59 7.588,0.61
3D body: height 6, standoff -3.7, extent 6.388,-3.09 7.588,-1.89
3D body: height 6, standoff -3.7, extent 9.888,-0.59 11.088,0.61
3D body: height 6, standoff -3.7, extent 9.888,-3.09 11.088,-1.89
3D body: height 6, standoff -3.7, extent 13.388,-3.09 14.588,-1.89
3D body: height 6, standoff -3.7, extent 13.388,-0.59 14.588,0.61
3D body: height 6, standoff -3.7, extent 16.888,-0.59 18.088,0.61
3D body: height 6, standoff -3.7, extent 16.888,-3.09 18.088,-1.89
3D body: height 6, standoff -3.7, extent 20.388,-0.59 21.588,0.61
3D body: height 6, standoff -3.7, extent 20.388,-3.09 21.588,-1.89
3D body: height 6, standoff -3.7, extent 23.888,-0.59 25.088,0.61
3D body: height 6, standoff -3.7, extent 23.888,-3.09 25.088,-1.89
3D body: height 6, standoff -3.7, extent 27.388,-0.59 28.588,0.61
3D body: height 6, standoff -3.7, extent 27.388,-3.09 28.588,-1.89
3D body: height 6, standoff -3.7, extent 30.888,-0.59 32.088,0.61
3D body: height 6, standoff -3.7, extent 30.888,-3.09 32.088,-1.89

## CON_IDC_2x6_2.54 [mm]
pads (12):
  round 1.6 hole 1: 1(0,0) 2(2.54,0) 3(5.08,0) 4(7.62,0) 5(10.16,0) 6(12.7,0) 7(0,-2.54) 8(2.54,-2.54) 9(5.08,-2.54) 10(7.62,-2.54) 11(10.16,-2.54) 12(12.7,-2.54)
Top Overlay:
  lines w0.128: 3.937,-5.715 3.937,-4.191 8.763,-4.191 8.763,-5.715 ; -5.016,-5.715 17.717,-5.715 17.717,3.175 -5.016,3.175 -5.016,-5.715
Top Assembly:
  lines w0.254: -5.06,-5.77 17.76,-5.77 17.76,3.23 -5.06,3.23 -5.06,-5.77
3D body: height 1.4, standoff 0.1, extent -4.953,-5.715 17.653,3.175
3D body: height 5.65, standoff 0.1, extent -4.925,-5.693 3.937,-5.393
3D body: height 5.65, standoff 0.1, extent 8.791,-5.693 17.653,-5.393
3D body: height 5.65, standoff 0.1, extent -4.931,-5.588 -4.631,3.02
3D body: height 5.65, standoff 0.1, extent 17.331,-5.687 17.631,3.175
3D body: height 5.5, standoff -2.8, extent -0.2,-0.2 0.2,0.2
3D body: height 5.5, standoff -2.8, extent -0.2,-2.74 0.2,-2.34
3D body: height 5.5, standoff -2.8, extent 2.34,-0.2 2.74,0.2
3D body: height 5.5, standoff -2.8, extent 2.34,-2.74 2.74,-2.34
3D body: height 5.5, standoff -2.8, extent 4.88,-2.74 5.28,-2.34
3D body: height 5.5, standoff -2.8, extent 4.88,-0.2 5.28,0.2
3D body: height 5.5, standoff -2.8, extent 7.42,-0.2 7.82,0.2
3D body: height 5.5, standoff -2.8, extent 7.42,-2.74 7.82,-2.34
3D body: height 5.5, standoff -2.8, extent 9.96,-0.2 10.36,0.2
3D body: height 5.5, standoff -2.8, extent 9.96,-2.74 10.36,-2.34
3D body: height 5.5, standoff -2.8, extent 12.5,-2.74 12.9,-2.34
3D body: height 5.5, standoff -2.8, extent 12.5,-0.2 12.9,0.2
3D body: height 5.65, standoff 0.1, extent -4.925,2.816 17.653,3.116

## CON_IDC_2x10_2.00 [mm]
pads (20):
  round 1.4 hole 0.9: 1(-1.001,8.993) 2(0.999,8.993) 3(-1.001,6.993) 4(0.999,6.993) 5(-1.001,4.993) 6(0.999,4.993) 7(-1.001,2.993) 8(0.999,2.993) 9(-1.001,0.993) 10(0.999,0.993) 11(-1.001,-1.007) 12(0.999,-1.007) 13(-1.001,-3.007) 14(0.999,-3.007) 15(-1.001,-5.007) 16(0.999,-5.007) 17(-1.001,-7.007) 18(0.999,-7.007) 19(-1.001,-9.007) 20(0.999,-9.007)
Top Overlay:
  lines w0.1: -4.001,-14.515 -4.001,-14.326 -4.001,-2.07 -4.001,-2.006 -3.001,-2.006 -3.001,1.994 -4.001,1.994 -4.001,14.493 3.299,14.493 3.299,-14.326 3.299,-14.515 -4.001,-14.515
Mechanical 13:
  lines w0.1: -2.801,-14.008 -2.801,13.993 2.799,13.993 2.799,-14.008 ; -2.801,-14.007 2.799,-14.007
Mechanical 15:
  lines w0.05: -4.101,-14.58 3.399,-14.58 3.399,14.593 -4.101,14.593 -4.101,-14.58
  lines w0.1: -0.508,0 0.492,0 ; 0,-0.492 0,0.508
3D body: height 5.65, standoff 0.1, extent -2.802,13.693 2.799,13.993
3D body: height 5.5, standoff -2.8, extent -1.201,8.793 -0.801,9.193
3D body: height 5.5, standoff -2.8, extent 0.799,8.793 1.199,9.193
3D body: height 5.65, standoff 0.1, extent -2.802,1.994 -2.502,13.993
3D body: height 5.5, standoff -2.8, extent -1.201,6.793 -0.801,7.193
3D body: height 5.5, standoff -2.8, extent 0.799,6.793 1.199,7.193
3D body: height 5.5, standoff -2.8, extent -1.201,4.793 -0.801,5.193
3D body: height 5.5, standoff -2.8, extent 0.799,4.793 1.199,5.193
3D body: height 5.5, standoff -2.8, extent -1.201,2.793 -0.801,3.193
3D body: height 5.5, standoff -2.8, extent 0.799,2.793 1.199,3.193
3D body: height 5.5, standoff -2.8, extent -1.201,0.793 -0.801,1.193
3D body: height 5.5, standoff -2.8, extent 0.799,0.793 1.199,1.193
3D body: height 1.4, standoff 0.1, extent -2.802,-14.008 2.799,13.993
3D body: height 5.65, standoff 0.1, extent 2.498,-14.008 2.799,13.993
3D body: height 5.5, standoff -2.8, extent -1.201,-1.207 -0.801,-0.807
3D body: height 5.5, standoff -2.8, extent 0.799,-1.207 1.199,-0.807
3D body: height 5.5, standoff -2.8, extent -1.201,-3.207 -0.801,-2.807
3D body: height 5.5, standoff -2.8, extent 0.799,-3.207 1.199,-2.807
3D body: height 5.5, standoff -2.8, extent -1.201,-5.207 -0.801,-4.807
3D body: height 5.5, standoff -2.8, extent 0.799,-5.207 1.199,-4.807
3D body: height 5.5, standoff -2.8, extent -1.201,-7.207 -0.801,-6.807
3D body: height 5.5, standoff -2.8, extent 0.799,-7.207 1.199,-6.807
3D body: height 5.65, standoff 0.1, extent -2.802,-14.008 -2.502,-2.007
3D body: height 5.5, standoff -2.8, extent -1.201,-9.207 -0.801,-8.807
3D body: height 5.5, standoff -2.8, extent 0.799,-9.207 1.199,-8.807
3D body: height 5.65, standoff 0.1, extent -2.8,-14.031 2.8,-13.731